# Altium footprint library Buttons.PcbLib: 29 footprints (part 2 of 2)
Each footprint in its own frame and in the unit in brackets; x right, y up, seen from the top. Pads: shape width x height; smd on the part's side, far side on the other; paste and mask are expansions set on the pad; w line width, h text height; cw(c..) or ccw(c..) is an arc to the next point about the centre after c.
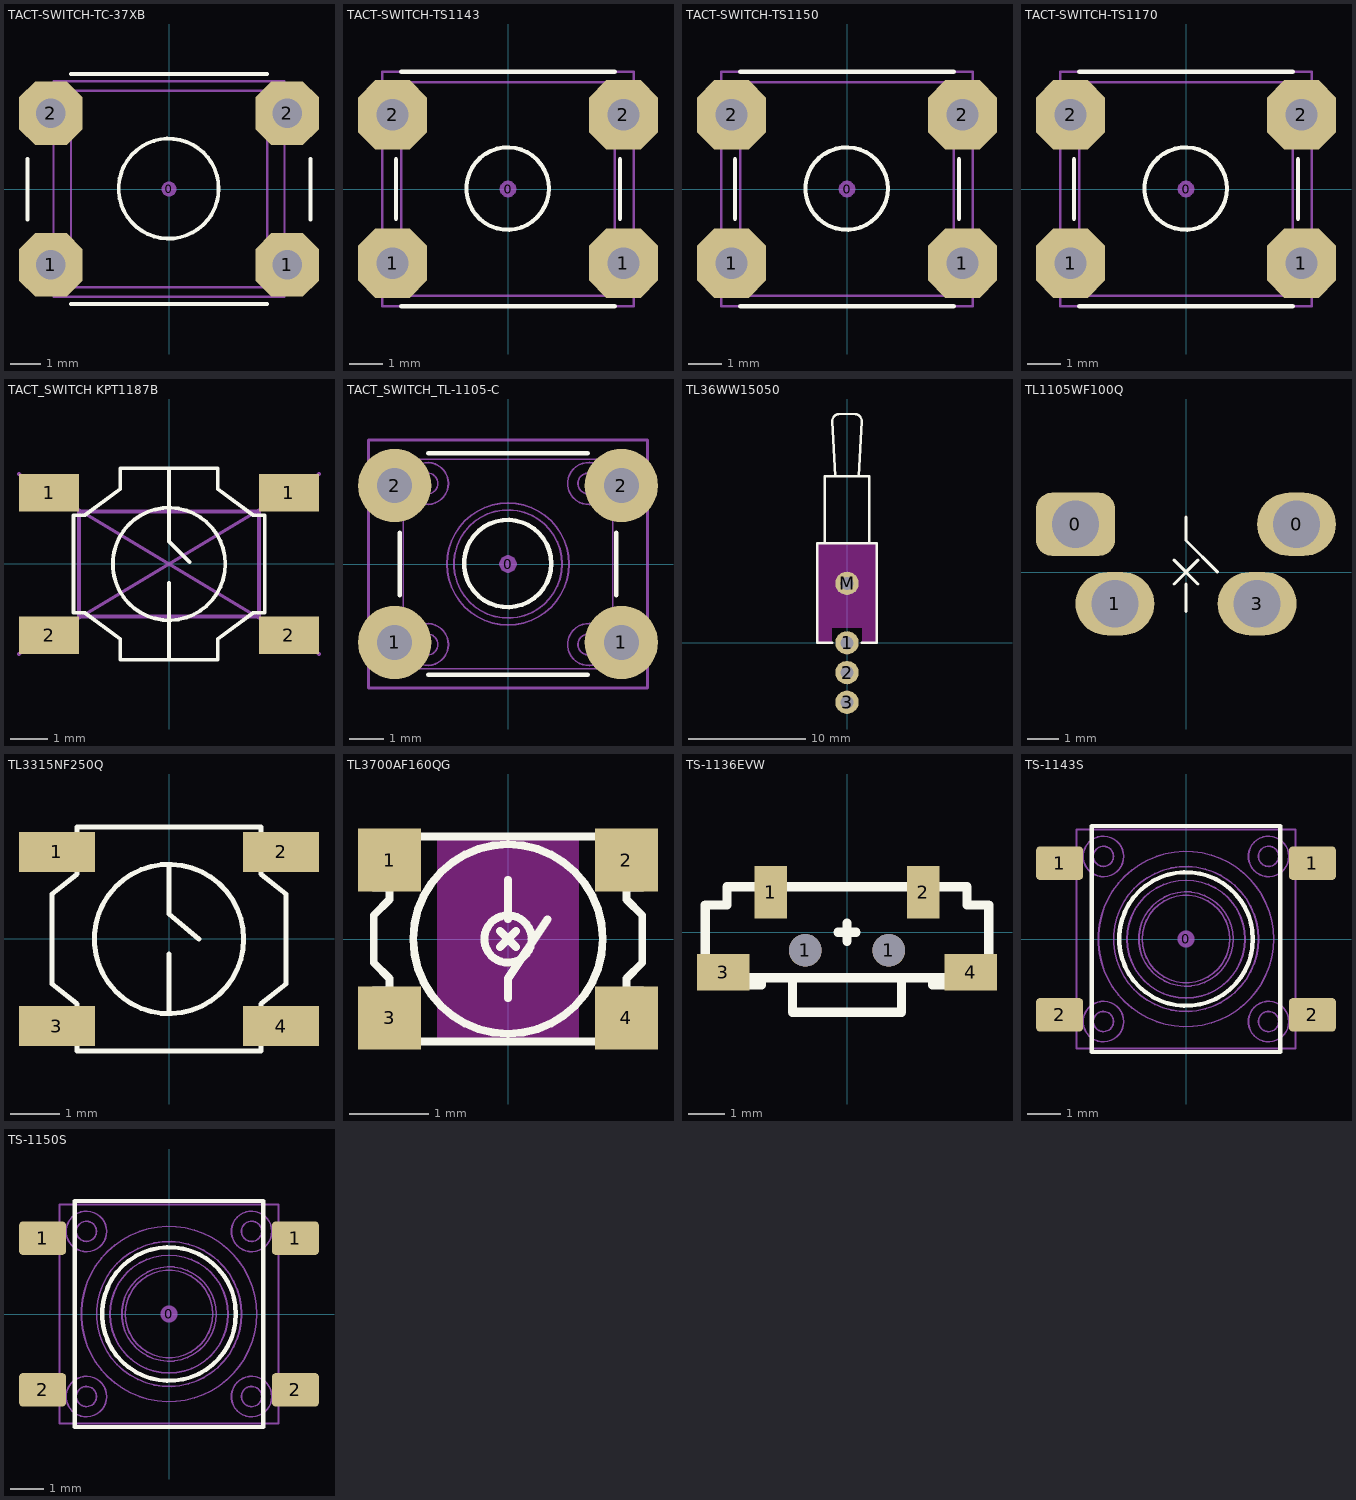
[diagram p1: the footprints below, top view; thin cyan lines are the x and y axes]

## TACT-SWITCH-TC-37XB [mm] "Wealth Metal sealed TH tact switch"
height 5
pads (5):
  round 0.508 on Mech15: 0(0,0)
  oct 2.1x2.1 hole 0.965: 1(-3.9,-2.5) 1(3.9,-2.5) 2(-3.9,2.5) 2(3.9,2.5)
Top Overlay:
  circle w0.127: c-0.011,0.014 r1.65
  lines w0.127: -4.67,-1 -4.67,1 ; -3.239,-3.791 3.24,-3.791 ; -3.232,3.794 3.24,3.794 ; 4.67,-1 4.67,1
Mechanical 13:
  circle w0.076: c-0.011,0.014 r1.65
  lines w0.076: -3.232,-3.237 -3.232,3.24 3.24,3.24 3.24,-3.237 -3.232,-3.237
Mechanical 15:
  lines w0.076: -3.81,-3.556 3.81,-3.556 3.81,3.556 -3.81,3.556 -3.81,-3.556
3D body "TC-37XB.stp": height 5, standoff -3.9, extent -4.456,-3.6 4.456,3.6

## TACT-SWITCH-TS1143 [mm] "Bondtact sealed TH tact switch"
height 4.318
pads (5):
  round 0.508 on Mech15: 0(0,0)
  oct 2.1x2.1 hole 0.965: 1(-3.5,-2.25) 1(3.5,-2.25) 2(-3.5,2.25) 2(3.5,2.25)
Top Overlay:
  circle w0.127: c-0.011,0.014 r1.25
  lines w0.127: -3.4,-0.9 -3.4,0.9 ; -3.239,-3.556 3.24,-3.556 ; -3.236,3.556 3.236,3.556 ; 3.4,-0.9 3.4,0.9
Mechanical 13:
  circle w0.076: c-0.011,0.014 r1.25
  lines w0.076: -3.232,-3.237 -3.232,3.24 3.24,3.24 3.24,-3.237 -3.232,-3.237
Mechanical 15:
  lines w0.076: -3.81,-3.556 3.81,-3.556 3.81,3.556 -3.81,3.556 -3.81,-3.556
3D body "TS-1143-WP.stp": height 4.3, standoff -3.5, extent -4.134,-3.25 4.134,3.25

## TACT-SWITCH-TS1150 [mm] "Bondtact sealed TH tact switch"
height 5.18
pads (5):
  round 0.508 on Mech15: 0(0,0)
  oct 2.1x2.1 hole 0.965: 1(-3.5,-2.25) 1(3.5,-2.25) 2(-3.5,2.25) 2(3.5,2.25)
Top Overlay:
  circle w0.127: c-0.011,0.014 r1.25
  lines w0.127: -3.4,-0.9 -3.4,0.9 ; -3.239,-3.556 3.24,-3.556 ; -3.236,3.556 3.236,3.556 ; 3.4,-0.9 3.4,0.9
Mechanical 13:
  circle w0.076: c-0.011,0.014 r1.25
  lines w0.076: -3.232,-3.237 3.24,-3.237 3.24,3.24 -3.232,3.24 -3.232,-3.237
Mechanical 15:
  lines w0.076: -3.81,-3.556 -3.81,3.556 3.81,3.556 3.81,-3.556 -3.81,-3.556
3D body "TS-1150-WP.stp": height 5, standoff -3.5, extent -4.134,-3.25 4.134,3.25

## TACT-SWITCH-TS1170 [mm] "Bondtact sealed TH tact switch"
height 6.985
pads (5):
  round 0.508 on Mech15: 0(0,0)
  oct 2.1x2.1 hole 0.965: 1(-3.5,-2.25) 1(3.5,-2.25) 2(-3.5,2.25) 2(3.5,2.25)
Top Overlay:
  circle w0.127: c-0.011,0.014 r1.25
  lines w0.127: -3.4,-0.9 -3.4,0.9 ; -3.239,-3.556 3.24,-3.556 ; -3.236,3.556 3.236,3.556 ; 3.4,-0.9 3.4,0.9
Mechanical 13:
  circle w0.076: c-0.011,0.014 r1.25
  lines w0.076: -3.232,-3.237 3.24,-3.237 3.24,3.24 -3.232,3.24 -3.232,-3.237
Mechanical 15:
  lines w0.076: -3.81,-3.556 -3.81,3.556 3.81,3.556 3.81,-3.556 -3.81,-3.556
3D body "TS-1170-WP.stp": height 7, standoff -3.5, extent -4.134,-3.25 4.134,3.25

## TACT_SWITCH KPT1187B [mm] "SMD_Button 5.2x5.2x1.6"
pads (4):
  rect 1.6x1 smd: 1(-3.2,1.9) 1(3.2,1.9) 2(-3.2,-1.9) 2(3.2,-1.9)
Top Overlay:
  circle w0.1: c0,0 r1.5
  lines w0.1: 0,-2.55 0,-0.5 ; 0,2.55 0,0.6 0.55,0.05 ; -2.55,-1.3 -2.55,1.3 ; -2.55,-1.3 -2.25,-1.3 -1.3,-2 -1.3,-2.55 ; -2.55,-1.3 -2.55,0 -2.55,1.3 ; -2.55,-1.3 -2.55,1.3 ; -2.55,1.3 -2.25,1.3 -1.3,2 -1.3,2.55 ; -1.3,-2.55 1.3,-2.55 ; -1.3,-2.55 1.3,-2.55 ; -1.3,2.55 1.3,2.55 ; -1.3,2.55 1.3,2.55 ; 1.3,-2.55 1.3,-2 2.25,-1.3 2.55,-1.3 2.55,1.3 2.25,1.3 1.3,2 1.3,2.55
Mechanical 3:
  lines w0.1: -4,-2.4 4,2.4 ; -4,2.4 4,-2.4
Mechanical 15:
  lines w0.1: -2.4,-1.4 -2.4,1.4 0,1.4 2.4,1.4 2.4,-1.4 0,-1.4 -2.4,-1.4
3D body "User Library-4x4_SMD_Switch.step": height 1.5, standoff 0, extent -3.2,-2.6 3.2,2.6

## TACT_SWITCH_TL-1105-C [mm] "E-Switch TL1105 series tact switch 8.0mm stem height"
height 8
pads (5):
  round 0.508 on Mech15: 0(0,0)
  round 2.1 hole 1: 1(-3.25,-2.25) 1(3.25,-2.25) 2(-3.25,2.25) 2(3.25,2.25)
Top Overlay:
  circle w0.127: c-0.011,0.014 r1.25
  lines w0.127: -3.1,-0.9 -3.1,0.9 ; -2.286,-3.175 2.286,-3.175 ; -2.286,3.175 2.286,3.175 ; 3.1,-0.9 3.1,0.9
Mechanical 13:
  circle w0.05: c-2.309,-2.309 r0.6
  circle w0.05: c2.309,-2.309 r0.6
  circle w0.05: c-2.309,2.309 r0.6
  circle w0.05: c2.309,2.309 r0.6
  circle w0.05: c2.307,-2.308 r0.3
  circle w0.05: c-2.31,-2.308 r0.3
  circle w0.05: c2.307,2.309 r0.3
  circle w0.05: c-2.31,2.309 r0.3
  circle w0.05: c0,0 r1.75
  circle w0.05: c0,0 r1.55
  lines w0.05: -3.886,-2.65 -3.886,-1.85 ; -3.886,1.85 -3.886,2.65 ; -3.3,-2.65 -3.3,-1.85 ; -3.3,1.85 -3.3,2.65 ; -3.15,-2.65 -3.15,-1.85 ; -3.15,1.85 -3.15,2.65 ; -3,-2.65 -3.95,-2.65 -3.95,-1.85 -3,-1.85 ; -3,1.85 -3.95,1.85 -3.95,2.65 -3,2.65 ; -2.561,-2.853 ccw(c-2.309,-2.309) -2.538,-2.863 ; -2.561,1.764 ccw(c-2.309,2.309) -2.538,1.754 ; 2.056,-2.853 ccw(c2.309,-2.309) 2.079,-2.863 ; 2.056,1.764 ccw(c2.309,2.309) 2.079,1.754 ; 3,-2.65 3.95,-2.65 3.95,-1.85 3,-1.85 ; 3,1.85 3.95,1.85 3.95,2.65 3,2.65 ; 3.15,-2.65 3.15,-1.85 ; 3.15,1.85 3.15,2.65 ; 3.3,-2.65 3.3,-1.85 ; 3.3,1.85 3.3,2.65 ; 3.886,-2.65 3.886,-1.85 ; 3.886,1.85 3.886,2.65 ; -3,-3 3,-3 3,3 -3,3 -3,-3
Mechanical 15:
  lines w0.076: -4,-3.556 4,-3.556 4,3.556 -4,3.556 -4,-3.556
3D body "TACT_SWITCH_TL-1105-C.STEP": height 8, standoff -3.5, extent -3.95,-3 3.95,3

## TL36WW15050 [mm] "Vertical right angle SPDT switch"
height 8.636
pads (4):
  round 2 hole 1.1: 1(0,0) 2(0,-2.54) 3(0,-5.08) M(0,5.08)
Top Layer keep-out:
  rectangle: -2.54,1.27 2.54,8.509
  rectangle: -2.54,0 -1.27,1.27
  rectangle: 1.27,0 2.54,1.27
Top Overlay:
  lines w0.2: -1.905,8.509 -1.905,14.224 1.905,14.224 1.905,8.509 ; -1.27,0 -2.54,0 -2.54,8.509 2.54,8.509 2.54,0 1.27,0 ; -1.016,14.224 -1.27,18.923 cw(c-0.635,18.923) -0.635,19.558 0.635,19.558 cw(c0.635,18.923) 1.27,18.923 1.016,14.224

## TL1105WF100Q [mm]
height 7
pads (4):
  rrect50% 2.5x2 hole 1.5: 0(-3.5,1.515)
  oval 2.5x2 hole 1.5: 0(3.5,1.515) 1(-2.25,-1) 3(2.25,-1)
Top Overlay:
  lines w0.1: -0.375,-0.375 0.375,0.375 ; -0.375,0.375 0.375,-0.375 ; 0,-1.25 0,-0.375 ; 0,1.75 0,1 1,0
3D body "User Library-TL1105 Tactile Switch 6x6 mm.step": height 7.1, standoff -3.5, extent -4.109,-5.3 4.109,3

## TL3315NF250Q [mm]
pads (4):
  rect 1.524x0.8 smd: 1(-2.25,1.75) 2(2.25,1.75) 3(-2.25,-1.75) 4(2.25,-1.75)
Top Overlay:
  circle w0.1: c0,0 r1.5
  lines w0.1: 0,-1.5 0,-0.3 ; 0,1.5 0,0.5 0.6,0 ; -2.35,-0.9 -2.35,0 -2.35,0.9 -1.85,1.3 -1.85,2.25 1.85,2.25 1.85,1.3 2.35,0.9 2.35,0 2.35,-0.9 1.85,-1.3 1.85,-2.25 -1.85,-2.25 -1.85,-1.3 -2.35,-0.9
3D body "User Library-Tactile_E_Switch_TL3315 (1).step": height 0.55, standoff 0, extent -2.375,-2.25 2.375,2.25

## TL3700AF160QG [mm] "SWITCH TACTILE SPST-NO 0.02A 15V"
height 0.65
pads (4):
  rect 0.8x0.8 smd: 1(-1.5,1) 2(1.5,1) 3(-1.5,-1) 4(1.5,-1)
Top Layer keep-out:
  rectangle: -0.9,-1.3 0.9,1.3
Top Overlay:
  circle w0.1: c0,0 r0.3
  circle w0.1: c0,0 r1.2
  lines w0.1: -1.5,-1.15 -1.7,-1.15 -1.7,-0.65 -1.5,-0.65 ; -1.5,0.65 -1.7,0.65 -1.7,1.15 -1.5,1.15 ; -0.1,-0.1 0.1,0.1 ; -0.1,0.1 0.1,-0.1 ; 0,-0.75 0,-0.5 0.5,0.25 ; 0,0.25 0,0.75 ; 1.5,-1.15 1.7,-1.15 1.7,-0.65 1.5,-0.65 ; 1.5,0.65 1.7,0.65 1.7,1.15 1.5,1.15 ; -1.7,-0.3 -1.7,0.3 -1.5,0.5 -1.5,1.3 1.5,1.3 1.5,0.5 1.7,0.3 1.7,-0.3 1.5,-0.5 1.5,-1.3 -1.5,-1.3 -1.5,-0.5 -1.7,-0.3
3D body: height 0.65, standoff 0, extent -0.598,-0.601 0.598,0.596
3D body: height 0.33, standoff 0, extent -1.702,-1.3 1.702,1.295
3D body: height 0.33, standoff 0, extent 0,0 0,0

## TS-1136EVW [mm] "TL3330AF130QG 3x6x3.5 мм"
pads (6):
  rect 0.9x1.45 smd: 1(-2.1,1.1) 2(2.1,1.1)
  round 0.9 hole 0.9 unplated: 1(-1.15,-0.5) 1(1.15,-0.5)
  rect 1.45x1 smd: 3(-3.4,-1.1) 4(3.4,-1.1)
Top Overlay:
  lines w0.254: -2.85,-1.25 -2.85,-1.45 -2.35,-1.45 -2.35,-1.25 ; -1.5,-1.25 -1.5,-2.2 1.5,-2.2 1.5,-1.25 ; -0.25,0 0.25,0 ; 0,-0.25 0,0.25 ; 2.35,-1.25 2.35,-1.45 2.85,-1.45 2.85,-1.25 ; -3.9,-1.25 -3.9,0.75 -3.3,0.75 -3.3,1.25 3.3,1.25 3.3,0.75 3.9,0.75 3.9,-1.25 -3.9,-1.25
  text ".Silk" at -1.445,2.132 h2
3D body "User Library-E-Switch - TL3330AF130QG (Tact Switch, SMD).step": height 3.5, standoff 0, extent -3.9,-2.3 3.9,1.3

## TS-1143S [mm] "6.5x6.5mm SMD tact switch 4.3mm stem"
height 4.3
pads (5):
  round 0.508 on Mech15: 0(0,0)
  rrect25% 1.4x1 smd: 1(-3.75,2.25) 1(3.75,2.25) 2(-3.75,-2.25) 2(3.75,-2.25)
Top Overlay:
  circle w0.127: c0,0 r1.984
  lines w0.127: -2.794,-3.35 -2.794,3.35 2.794,3.35 2.794,-3.35 -2.794,-3.35
Mechanical 13:
  circle w0.05: c0,0 r1.4
  circle w0.05: c0,0 r1.3
  circle w0.05: c0,-0.002 r1.75
  circle w0.05: c0,0 r2.15
  circle w0.05: c0,0 r2.6
  circle w0.05: c2.45,2.452 r0.3
  circle w0.05: c-2.45,2.452 r0.3
  circle w0.05: c2.45,-2.448 r0.3
  circle w0.05: c-2.45,-2.448 r0.3
  circle w0.05: c-2.45,2.45 r0.6
  circle w0.05: c2.45,2.45 r0.6
  circle w0.05: c2.45,-2.45 r0.6
  circle w0.05: c-2.45,-2.45 r0.6
  lines w0.05: -3.591,-2.6 -3.591,-1.9 ; -3.591,1.9 -3.591,2.6 ; -3.571,-2.6 -3.571,-1.9 ; -3.571,1.9 -3.571,2.6 ; -3.468,-2.6 -3.468,-1.9 ; -3.468,1.9 -3.468,2.6 ; -3.253,-2.6 -3.253,-1.9 ; -3.253,1.9 -3.253,2.6 ; -3.25,-2.6 -4,-2.6 -4,-1.9 -3.25,-1.9 ; -3.25,1.9 -4,1.9 -4,2.6 -3.25,2.6 ; 3.25,-2.6 4,-2.6 4,-1.9 3.25,-1.9 ; 3.25,1.9 4,1.9 4,2.6 3.25,2.6 ; 3.253,-2.6 3.253,-1.9 ; 3.253,1.9 3.253,2.6 ; 3.468,-2.6 3.468,-1.9 ; 3.468,1.9 3.468,2.6 ; 3.571,-2.6 3.571,-1.9 ; 3.571,1.9 3.571,2.6 ; 3.591,-2.6 3.591,-1.9 ; 3.591,1.9 3.591,2.6 ; -3.25,-3.25 3.25,-3.25 3.25,3.25 -3.25,3.25 -3.25,-3.25
3D body "TS-1143S-WP.STEP": height 4.3, standoff 0, extent -4,-3.25 4,3.25

## TS-1150S [mm] "6.5x6.5mm SMD tact switch 5.0mm stem"
height 5
pads (5):
  round 0.508 on Mech15: 0(0,0)
  rrect25% 1.4x1 smd: 1(-3.75,2.25) 1(3.75,2.25) 2(-3.75,-2.25) 2(3.75,-2.25)
Top Overlay:
  circle w0.127: c0,0 r1.984
  lines w0.127: -2.794,-3.35 2.794,-3.35 2.794,3.35 -2.794,3.35 -2.794,-3.35
Mechanical 13:
  circle w0.05: c-2.45,-2.45 r0.6
  circle w0.05: c2.45,-2.45 r0.6
  circle w0.05: c2.45,2.45 r0.6
  circle w0.05: c-2.45,2.45 r0.6
  circle w0.05: c-2.45,-2.448 r0.3
  circle w0.05: c2.45,-2.448 r0.3
  circle w0.05: c-2.45,2.452 r0.3
  circle w0.05: c2.45,2.452 r0.3
  circle w0.05: c0,0 r2.6
  circle w0.05: c0,0 r2.15
  circle w0.05: c0,-0.002 r1.75
  circle w0.05: c0,0 r1.3
  circle w0.05: c0,0 r1.4
  lines w0.05: -3.591,-2.6 -3.591,-1.9 ; -3.591,1.9 -3.591,2.6 ; -3.571,-2.6 -3.571,-1.9 ; -3.571,1.9 -3.571,2.6 ; -3.468,-2.6 -3.468,-1.9 ; -3.468,1.9 -3.468,2.6 ; -3.253,-2.6 -3.253,-1.9 ; -3.253,1.9 -3.253,2.6 ; -3.25,-2.6 -4,-2.6 -4,-1.9 -3.25,-1.9 ; -3.25,1.9 -4,1.9 -4,2.6 -3.25,2.6 ; 3.25,-2.6 4,-2.6 4,-1.9 3.25,-1.9 ; 3.25,1.9 4,1.9 4,2.6 3.25,2.6 ; 3.253,-2.6 3.253,-1.9 ; 3.253,1.9 3.253,2.6 ; 3.468,-2.6 3.468,-1.9 ; 3.468,1.9 3.468,2.6 ; 3.571,-2.6 3.571,-1.9 ; 3.571,1.9 3.571,2.6 ; 3.591,-2.6 3.591,-1.9 ; 3.591,1.9 3.591,2.6 ; -3.25,-3.25 -3.25,3.25 3.25,3.25 3.25,-3.25 -3.25,-3.25
3D body "TS-1150S-WP.STEP": height 5, standoff 0, extent -4,-3.25 4,3.25